# Altium schematic symbol library FT230XS.SchLib: 1 symbol
Pins are listed as number, name and electrical type; pins without a type are passive.

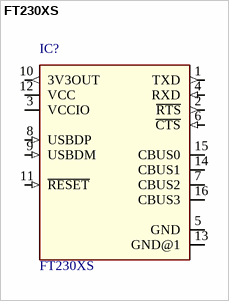
[diagram p0: symbol FT230XS]

## FT230XS
designator IC?
I/F, USB2.0 FS TO BASIC UART, 16SSOP; USB Type: Transceiver; USB Version: 2.0; Data Rate: 3Mbaud; Supply Voltage Rang...; MF: FTDI; MP: FT230XS; Package: SSOP-16 FTDI; Price: None; Availability: Unavailable; SnapEDA_Link: https://www.snapeda.com/parts/FT230XS/FTDI/view-part/?ref=snap; Value: *
footprint *SSOP16
pins: 1 TXD (out), 2 ~{RTS} (out), 3 VCCIO (power), 4 RXD (in), 5 GND (power), 6 ~{CTS} (in), 7 CBUS2 (io), 8 USBDP (in), 9 USBDM (in), 10 3V3OUT (out), 11 ~{RESET} (in), 12 VCC (power), 13 GND@1 (power), 14 CBUS1 (io), 15 CBUS0 (io), 16 CBUS3 (io)